# Altium footprint library USB-Ethernet.PcbLib: 1 footprints
Each footprint in its own frame and in the unit in brackets; x right, y up, seen from the top. Pads: shape width x height; smd on the part's side, far side on the other; paste and mask are expansions set on the pad; w line width, h text height; cw(c..) or ccw(c..) is an arc to the next point about the centre after c.
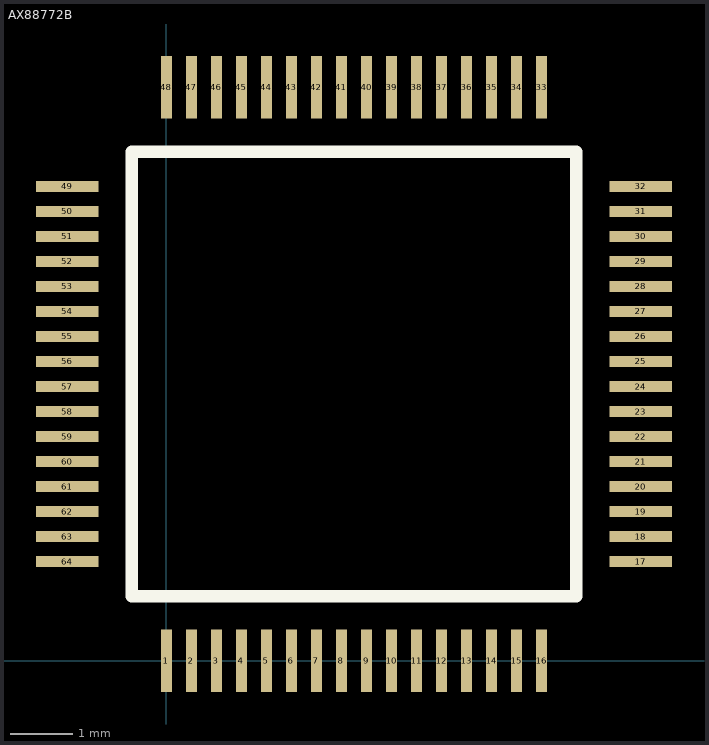
[diagram p0: the footprint, top view; thin cyan lines are the x and y axes]

## AX88772B [mm]
height 1.6
pads (64):
  rect 0.18x1 smd: 1(0,0) 2(0.4,0) 3(0.8,0) 4(1.2,0) 5(1.6,0) 6(2,0) 7(2.4,0) 8(2.8,0) 9(3.2,0) 10(3.6,0) 11(4,0) 12(4.4,0) 13(4.8,0) 14(5.2,0) 15(5.6,0) 16(6,0) 33(6,9.18) 34(5.6,9.18) 35(5.2,9.18) 36(4.8,9.18) 37(4.4,9.18) 38(4,9.18) 39(3.6,9.18) 40(3.2,9.18) 41(2.8,9.18) 42(2.4,9.18) 43(2,9.18) 44(1.6,9.18) 45(1.2,9.18) 46(0.8,9.18) 47(0.4,9.18) 48(0,9.18)
  rect 1x0.18 smd: 17(7.59,1.59) 18(7.59,1.99) 19(7.59,2.39) 20(7.59,2.79) 21(7.59,3.19) 22(7.59,3.59) 23(7.59,3.99) 24(7.59,4.39) 25(7.59,4.79) 26(7.59,5.19) 27(7.59,5.59) 28(7.59,5.99) 29(7.59,6.39) 30(7.59,6.79) 31(7.59,7.19) 32(7.59,7.59) 49(-1.59,7.59) 50(-1.59,7.19) 51(-1.59,6.79) 52(-1.59,6.39) 53(-1.59,5.99) 54(-1.59,5.59) 55(-1.59,5.19) 56(-1.59,4.79) 57(-1.59,4.39) 58(-1.59,3.99) 59(-1.59,3.59) 60(-1.59,3.19) 61(-1.59,2.79) 62(-1.59,2.39) 63(-1.59,1.99) 64(-1.59,1.59)
Top Overlay:
  lines w0.2: -0.555,1.035 6.555,1.035 6.555,8.145 -0.555,8.145 -0.555,1.035